# Altium footprint library l298n_mini.PcbLib: 1 footprints
Each footprint in its own frame and in the unit in brackets; x right, y up, seen from the top. Pads: shape width x height; smd on the part's side, far side on the other; paste and mask are expansions set on the pad; w line width, h text height; cw(c..) or ccw(c..) is an arc to the next point about the centre after c.
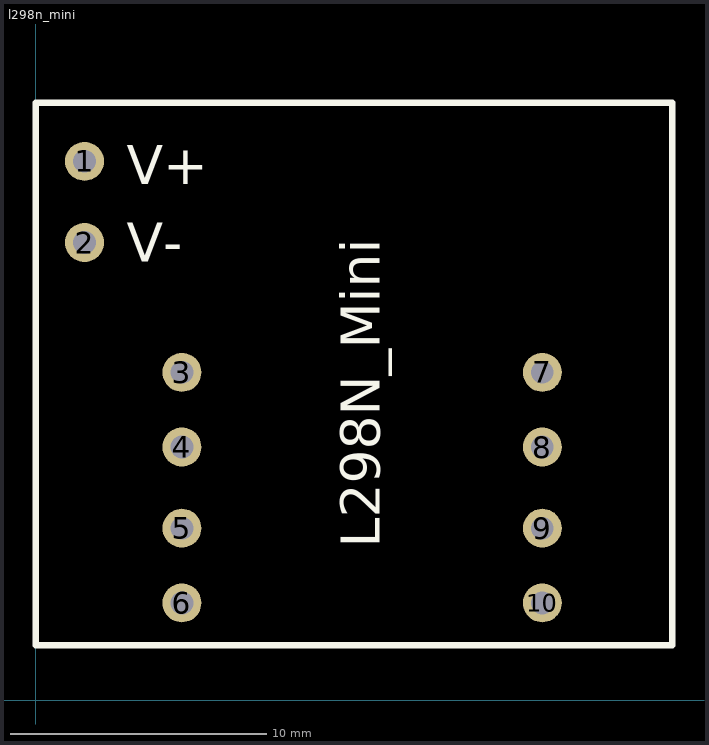
[diagram p0: the footprint, top view; thin cyan lines are the x and y axes]

## l298n_mini [mil]
pads (10):
  round 60 hole 35: 1(75,830) 2(75,705) 3(225,505) 4(225,390) 5(225,265) 6(225,150) 7(780,505) 8(780,390) 9(780,265) 10(780,150)
Top Overlay:
  lines w10: 0,85 980,85 980,920 0,920 0,85
  text "L298N_Mini" at 530,235 h60
  text "V+" at 140,795 h60
  text "V-" at 140,675 h60
3D body "DC Motor Driver .step": height 196.85, standoff 0, extent 3.78,91.61 976.22,918.39